# Altium schematic symbol library vishay-mosfet.SchLib: 4 symbols
Pins are listed as number, name and electrical type; pins without a type are passive.

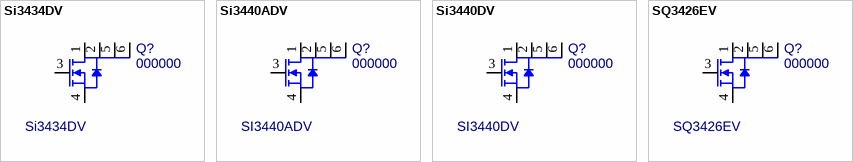
[diagram p0: symbols Si3434DV to SQ3426EV]

## Si3434DV
designator Q?, comment 000000  value Si3434DV
N-Channel MOSFET 30V 6A SOT-23-6; MF PN: SI3434DV-T1-E3; MF: Vishay Siliconix; PN: 000000; Package: SOT23-6; ExtraInfo: *; Price: *; Digi-Key PN: *
footprint SOT23-6-M (SOT23, 6-Leads, Body 3.0x3.0mm (max), Pitch 0.95mm, IPC Medium Density)
simulation model SI3434DV (March 21, 2005)
pins: 1 D, 2 D, 3 G, 4 S, 5 D, 6 D

## Si3440ADV
designator Q?, comment 000000  value SI3440ADV
N-Channel MOSFET 150V 2.2A; MF PN: SI3440ADV-T1-GE3; MF: Vishay Siliconix; PN: 000000; Package: SOT23-6; ExtraInfo: *; Price: 0.19089; Digi-Key PN: SI3440ADV-T1-GE3CT-ND
footprint SOT23-6-HV (SOT23, 6-Leads, Body 3.0x3.0mm (max), Pitch 0.95mm, IPC High Voltage)
pins: 1 D, 2 D, 3 G, 4 S, 5 D, 6 D

## Si3440DV
designator Q?, comment 000000  value SI3440DV
N-Channel MOSFET 150V 1.2A; MF PN: SI3440DV-T1-GE3; MF: Vishay Siliconix; PN: 000000; Package: SOT23-6; ExtraInfo: *; Price: 0.61431; Digi-Key PN: SI3440DV-T1-GE3CT-ND
footprint SOT23-6-HV (SOT23, 6-Leads, Body 3.0x3.0mm (max), Pitch 0.95mm, IPC High Voltage)
pins: 1 D, 2 D, 3 G, 4 S, 5 D, 6 D

## SQ3426EV
designator Q?, comment 000000  value SQ3426EV
N-Channel MOSFET 60V 7A; MF PN: SQ3426EV-T1_GE3; MF: Vishay Siliconix; PN: 000000; Package: SOT23-6; ExtraInfo: *; Price: *; Digi-Key PN: *
footprint SOT23-6-M (SOT23, 6-Leads, Body 3.0x3.0mm (max), Pitch 0.95mm, IPC Medium Density)
pins: 1 D, 2 D, 3 G, 4 S, 5 D, 6 D